# Altium footprint library PCB - POWER INDUCTORS - TDK SLF7032.PcbLib: 1 footprints
Each footprint in its own frame and in the unit in brackets; x right, y up, seen from the top. Pads: shape width x height; smd on the part's side, far side on the other; paste and mask are expansions set on the pad; w line width, h text height; cw(c..) or ccw(c..) is an arc to the next point about the centre after c.
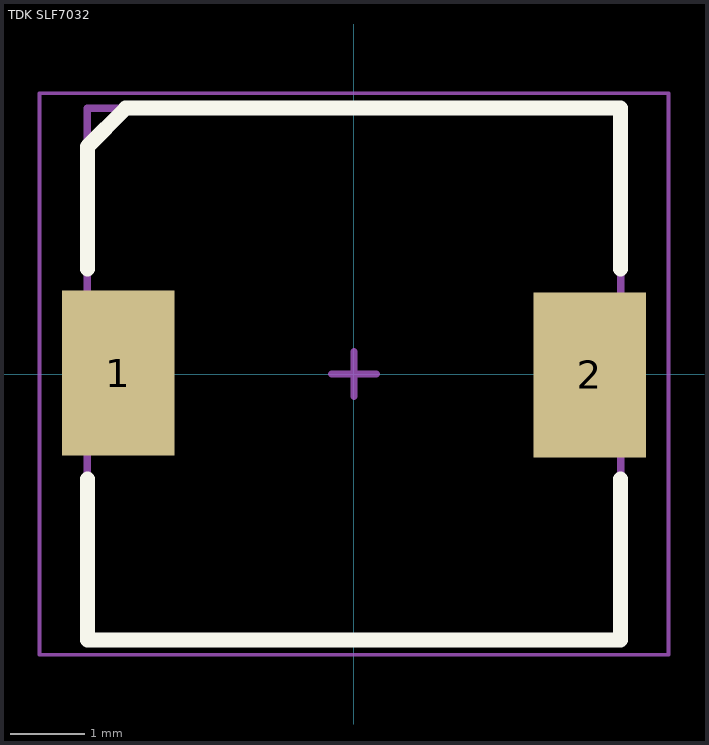
[diagram p0: the footprint, top view; thin cyan lines are the x and y axes]

## TDK SLF7032 [mm] "Power Inductor, 2-Leads, TDK, SLF7032T-221MR29-2PF"
height 3.4
pads (2):
  rect 1.5x2.2 smd: 1(-3.15,0.013) 2(3.15,-0.012)
Top Overlay:
  lines w0.2: -3.56,-1.4 -3.56,-3.55 3.56,-3.55 3.56,-1.4 ; -3.56,1.4 -3.56,3.04 -3.05,3.55 3.56,3.55 3.56,1.4
Mechanical 13:
  lines w0.1: -3.56,-3.55 3.56,-3.55 3.56,3.55 -3.56,3.55 -3.56,-3.55
Mechanical 15 (Mech15):
  lines w0.05: -4.2,-3.75 -4.2,3.75 4.2,3.75 4.2,-3.75 -4.2,-3.75
  lines w0.1: -0.3,0 0.3,0 ; 0,-0.3 0,0.3
3D body "TDK - SLF7032.step": height 3.39, standoff 0, extent -3.56,-3.563 3.56,3.537